# Altium schematic symbol library BAS40-SOT23.SchLib: 1 symbol
Pins are listed as number, name and electrical type; pins without a type are passive.

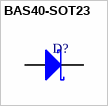
[diagram p0: symbol BAS40-SOT23]

## BAS40-SOT23
designator D?  (value not drawn)
pins: 1 A, 3 K